# Altium schematic symbol library SCH - POWER - LINEAR VREG - TI LP2953QML-SPNAC.SchLib: 1 symbol
Pins are listed as number, name and electrical type; pins without a type are passive.

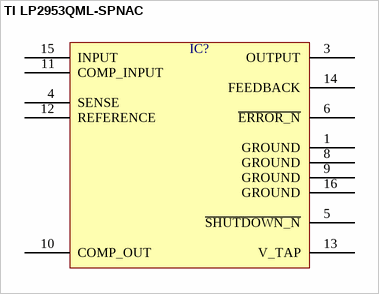
[diagram p0: symbol TI LP2953QML-SPNAC]

## TI LP2953QML-SPNAC
designator IC?  (value not drawn)
pins: 1 GROUND, 3 OUTPUT, 4 SENSE, 5 ~{SHUTDOWN_N}, 6 ~{ERROR_N}, 8 GROUND, 9 GROUND, 10 COMP_OUT, 11 COMP_INPUT, 12 REFERENCE, 13 V_TAP, 14 FEEDBACK, 15 INPUT, 16 GROUND